# Altium integrated library Integrated_Library_component.IntLib: 9 symbols
Pins are listed as number, name and electrical type; pins without a type are passive.

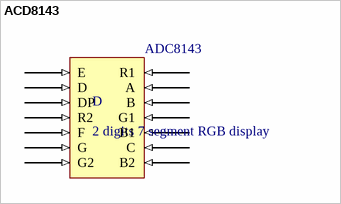
[diagram p0: symbol ACD8143]

## ACD8143
designator D, comment 2 digits 7 segment RGB display
footprint ACD8143
pins: 1 E (in), 2 D (in), 3 DP (in), 4 R2 (in), 5 F (in), 6 G (in), 7 G2 (in), 8 B2 (in), 9 C (in), 10 B1 (in), 11 G1 (in), 12 B (in), 13 A (in), 14 R1 (in)
text: ADC8143


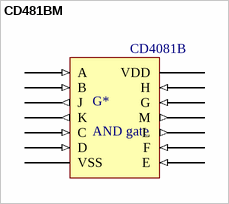
[diagram p1: symbol CD481BM]

## CD481BM
designator G*, comment AND gate
4 Circuits 2 Inputs AND Gate
footprint SOIC127P600X175-14N (SOIC, 14-Leads, Body 8.65x3.90mm, Pitch 1.27mm, IPC Medium Density)
pins: 1 A (in), 2 B (in), 3 J (out), 4 K (out), 5 C (in), 6 D (in), 7 VSS (power), 8 E (in), 9 F (in), 10 L (out), 11 M (out), 12 G (in), 13 H (in), 14 VDD (power)
text: CD4081B


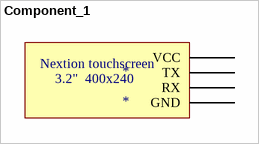
[diagram p2: symbol Component_1]

## Component_1
designator *
pins: 1 VCC, 2 TX, 3 RX, 4 GND
text: Nextion touchscreen; 3.2"  400x240


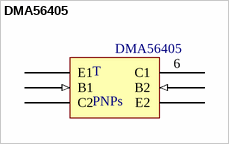
[diagram p3: symbol DMA56405]

## DMA56405
designator T, comment PNPs
2 PNPs with internal base 10k resistor
footprint SOTFL65P210X71-6N (SOTFL, 6-Leads, Body 2.00x2.10mm, Pitch 0.65mm, IPC Medium Density)
pins: 1 E1, 2 B1 (in), 3 C2, 4 E2, 5 B2 (in), 6 C1


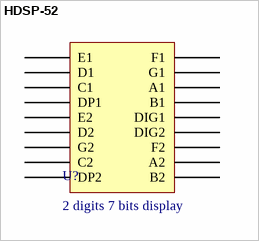
[diagram p4: symbol HDSP-52]

## HDSP-52
designator U?, comment 2 digits 7 bits display
2 digits 7 bits display Green 14.2mm
footprint HDSP-52
pins: 1 E1, 2 D1, 3 C1, 4 DP1, 5 E2, 6 D2, 7 G2, 8 C2, 9 DP2, 10 B2, 11 A2, 12 F2, 13 DIG2, 14 DIG1, 15 B1, 16 A1, 17 G1, 18 F1


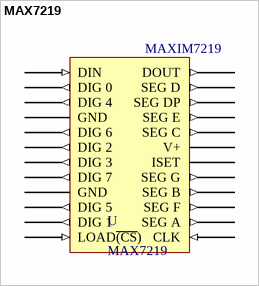
[diagram p5: symbol MAX7219]

## MAX7219
designator U
Serial Interface, 8-Digit LED Display Drivers
footprint SOIC127P1030X235-24N (SOIC, 24-Leads, Body 15.40x7.50mm, Pitch 1.27mm, IPC Medium Density)
footprint DIP24
pins: 1 DIN (in), 2 DIG 0 (out), 3 DIG 4 (out), 4 GND (power), 5 DIG 6 (out), 6 DIG 2 (out), 7 DIG 3 (out), 8 DIG 7 (out), 9 GND (power), 10 DIG 5 (out), 11 DIG 1 (out), 12 LOAD~{(CS}) (in), 13 CLK (in), 14 SEG A (out), 15 SEG F (out), 16 SEG B (out), 17 SEG G (out), 18 ISET, 19 V+ (power), 20 SEG C (out), 21 SEG E (out), 22 SEG DP (out), 23 SEG D (out), 24 DOUT (out)
text: MAXIM7219


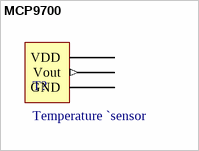
[diagram p6: symbol MCP9700]

## MCP9700
designator T?, comment Temperature `sensor
footprint TO-92
pins: 1 VDD (power), 2 Vout (out), 3 GND


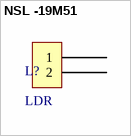
[diagram p7: symbol NSL -19M51]

## NSL -19M51
designator L?, comment LDR
footprint TO-18
pins: 1, 2


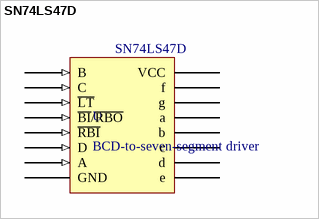
[diagram p8: symbol SN74LS47D]

## SN74LS47D
designator U, comment BCD-to-seven-segment driver
footprint SOIC127P600X175-16N (SOIC, 16-Leads, Body 9.95x3.90mm, Pitch 1.27mm, IPC Medium Density)
pins: 1 B (in), 2 C (in), 3 ~{LT} (in), 4 ~{BI}/~{RBO} (in), 5 ~{RBI} (in), 6 D (in), 7 A (in), 8 GND (power), 9 e (oc), 10 d (oc), 11 c (oc), 12 b (oc), 13 a (oc), 14 g (oc), 15 f (oc), 16 VCC (power)